# Altium footprint library DHT11.PcbLib: 1 footprints
Each footprint in its own frame and in the unit in brackets; x right, y up, seen from the top. Pads: shape width x height; smd on the part's side, far side on the other; paste and mask are expansions set on the pad; w line width, h text height; cw(c..) or ccw(c..) is an arc to the next point about the centre after c.
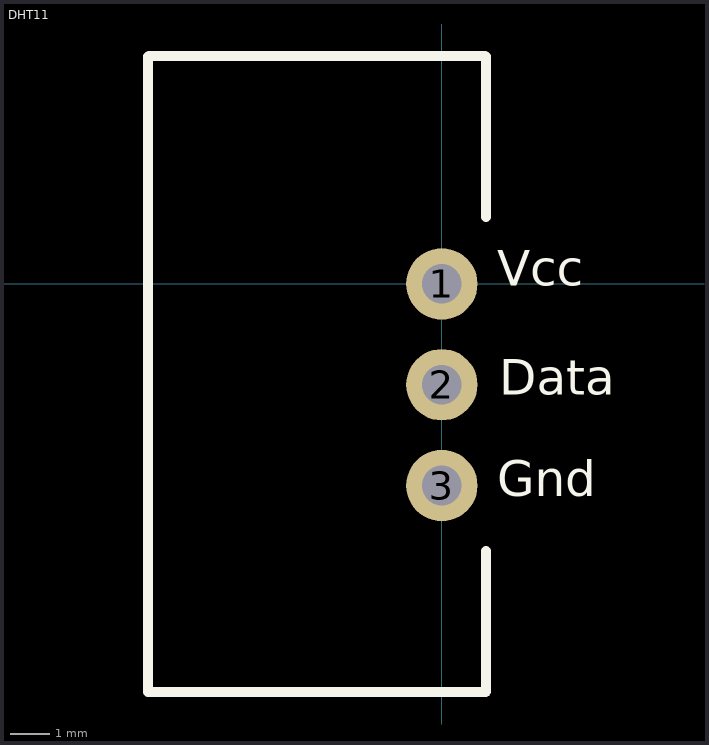
[diagram p0: the footprint, top view; thin cyan lines are the x and y axes]

## DHT11 [mm]
pads (3):
  round 1.8 hole 1: 1(0,0) 2(0,-2.54) 3(0,-5.08)
Top Overlay:
  lines w0.254: -7.395,5.724 -7.395,-10.282 1.103,-10.282 1.117,-10.268 1.117,-6.728 ; -7.377,5.743 1.09,5.743 1.11,5.723 1.11,1.686
  text "Vcc" at 1.401,-0.334 h1.52
  text "Gnd" at 1.4,-5.633 h1.52
  text "Data" at 1.45,-3.084 h1.52
3D body "module dht11.step": height 27.59, standoff -0.11, extent -7.394,-10.273 1.106,5.727
3D body "3-Pin Header - Female - 2.54mm.step": height 5.25, standoff -2.75, extent -1.214,-6.579 1.286,1.542